# Altium schematic symbol library Miscellaneous.SchLib: 9 symbols
Pins are listed as number, name and electrical type; pins without a type are passive.

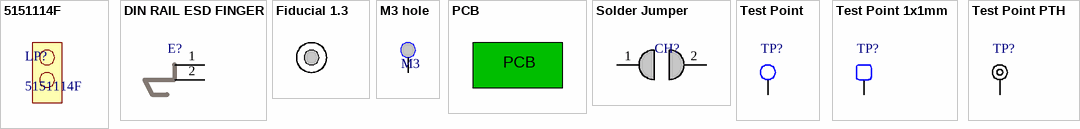
[diagram p0: symbols 5151114F to Test Point PTH]

## 5151114F
designator LP?
LIGHT PIPE BI-LEVEL; Manufacturer: Dialight; Mount Type: Press Fit; Value: 5151114F; Supplier 1: Digikey; Supplier Part Number 1: 350-3399-ND; Supplier 2: Arrow; Supplier Part Number 2: 515-1114F; Supplier 3: Mouser; Supplier Part Number 3: 645-515-1114F; Supplier 4: Newark; Supplier Part Number 4: 87M1652
footprint Model Name (Footprint not found)
footprint Light Pipe 515-1114

## DIN RAIL ESD FINGER
designator E?  (value not drawn)
footprint DIN RAIL ESD FINGER
pins: 1, 2

## Fiducial 1.3
designator FD?  (value not drawn)  (no BOM)
Fiducial 1.3mm
footprint Fiducial 1.3mm

## M3 hole
designator MEC?, comment M3  (no BOM)
M3 hole
footprint M3 hole
pins: 0

## PCB
designator _PCB, comment PCB spec  (value not drawn)
PCB

## Solder Jumper
designator CH?  (value not drawn)
PCB Solder jumper; Action: Latched; Circuit: SPST; Manufacturer: *; Mount Type: SMD
footprint Solder Jumper
pins: 1 NC, 2 C

## Test Point
designator TP?, comment DNP  (value not drawn)  (no BOM)
TEST POINT PAD
footprint TEST POINT
pins: 1

## Test Point 1x1mm
designator TP?, comment DNP  (value not drawn)  (no BOM)
TEST POINT PAD
footprint TEST POINT 1x1mm
pins: 1

## Test Point PTH
designator TP?, comment DNP  (value not drawn)  (no BOM)
TEST POINT PAD
footprint TEST POINT PTH
pins: 1